# EAGLE library part 09652226801 (library SamacSys_Parts)
CONN D-SUB PLUG 15POS VERT SLDR Source: Datasheet <https://b2b.harting.com/files/download/PRD/PDF_TS/0965222X80X_BL01_R31892_100078499DRW002A.pdf?siteName=Ebusiness Site&autoLogoutEnabled=true&autoLogoutTime=1800&showPrivacyEmailAgreement=false&contextURL=https://b2b.harting.com/ebusiness/en_us>
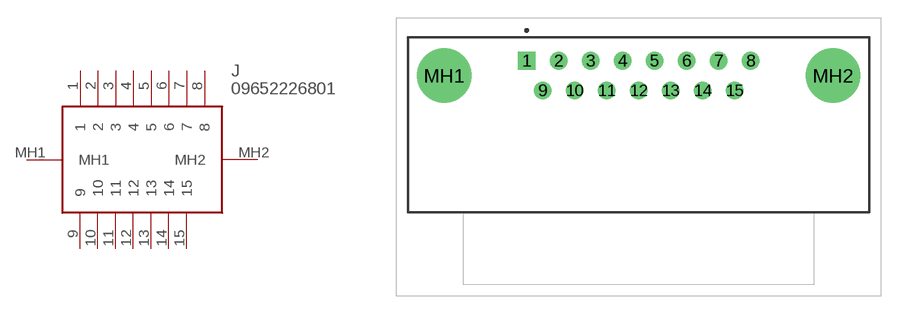
[diagram p208: symbol with the pads of 09652226800; footprint 09652226800]

Designator prefix J

## 09652226801 (DESCRIPTION: CONN D-SUB PLUG 15POS VERT SLDR; HEIGHT: 12.5mm; MANUFACTURER_NAME: HARTING; MANUFACTURER_PART_NUMBER: 09652226801)  [09652226800]
1  1
2  2
3  3
4  4
5  5
6  6
7  7
8  8
9  9
10  10
11  11
12  12
13  13
14  14
15  15
MH1  MH1
MH2  MH2

## Footprint 09652226800 (pad centres in mm)
09652226800)1
drill 1 pad 1.5 square: 1 0,0
drill 1 pad 1.5: 2 2.74,0; 3 5.48,0; 4 8.22,0; 5 10.96,0; 6 13.7,0; 7 16.44,0; 8 19.18,0; 9 1.37,-2.54; 10 4.11,-2.54; 11 6.85,-2.54; 12 9.59,-2.54; 13 12.33,-2.54; 14 15.07,-2.54; 15 17.81,-2.54
drill 3.1 pad 4.65: MH1 -7.06,-1.27; MH2 26.24,-1.27